# Altium schematic symbol library CAN_BUS.SchLib: 16 symbols
Pins are listed as number, name and electrical type; pins without a type are passive.

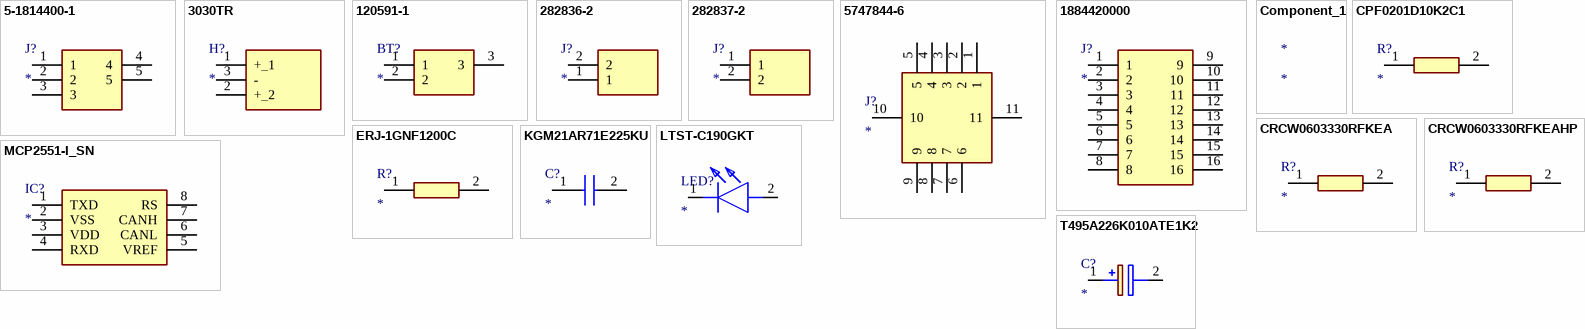
[diagram p0: symbols 5-1814400-1 to T495A226K010ATE1K2]

## 5-1814400-1
designator J?
Connector; Manufacturer_Name: TE Connectivity; Manufacturer_Part_Number: 5-1814400-1; Datasheet Link: https://www.te.com/commerce/DocumentDelivery/DDEController?Action=showdoc&DocId=Customer+Drawing%7F1814400%7FD%7Fpdf%7FEnglish%7FENG_CD_1814400_D_baseFilename.pdf%7F5-1814400-1; Height: 10.43mm; Mouser Part Number: 571-5-1814400-1; Mouser Price/Stock: https://www.mouser.co.uk/ProductDetail/TE-Connectivity/5-1814400-1?qs=ZMVvPt2N%252B83mDSbcJPKgOA%3D%3D; Arrow Part Number: 5-1814400-1; Arrow Price/Stock: https://www.arrow.com/en/products/5-1814400-1/te-connectivity
footprint 518144001
pins: 1, 2, 3, 4, 5

## 3030TR
designator H?
Hardware; Manufacturer_Name: Keystone Electronics; Manufacturer_Part_Number: 3030TR; Datasheet Link: https://www.keyelco.com/product.cfm/product_id/3952; Height: 3.2mm; Mouser Part Number: 534-3030TR; Mouser Price/Stock: https://www.mouser.co.uk/ProductDetail/Keystone-Electronics/3030TR?qs=wOxb8XianXjwPE0WKmjCvQ%3D%3D; Arrow Part Number: 3030TR; Arrow Price/Stock: https://www.arrow.com/en/products/3030tr/keystone-electronics?region=europe
footprint 3030TR
pins: 1 +_1, 2 +_2, 3 -

## 120591-1
designator BT?
Battery; Manufacturer_Name: TE Connectivity; Manufacturer_Part_Number: 120591-1; Description: Holder pcb 2 way Battery Holder pcb 2 way Battery; Datasheet Link: http://www.te.com/commerce/DocumentDelivery/DDEController?Action=srchrtrv&DocNm=120591&DocType=Customer+Drawing&DocLang=English&DocFormat=pdf&PartCntxt=120591-1; Mouser Part Number: 571-1205911; Mouser Price/Stock: https://www.mouser.co.uk/ProductDetail/TE-Connectivity/120591-1?qs=cB%252BprIo57OeZ1n1mnEiYEw%3D%3D; Arrow Part Number: 120591-1; Arrow Price/Stock: https://www.arrow.com/en/products/120591-1/te-connectivity?region=nac
footprint 120591-1
pins: 1, 2, 3

## 282836-2
designator J?
Connector; Manufacturer_Name: TE Connectivity; Manufacturer_Part_Number: 282836-2; Datasheet Link: https://www.te.com/commerce/DocumentDelivery/DDEController?Action=showdoc&DocId=Customer+Drawing%7F282836%7FJ%7Fpdf%7FEnglish%7FENG_CD_282836_J.pdf%7F282836-2; Height: 10mm; Mouser Part Number: 571-2828362; Mouser Price/Stock: https://www.mouser.co.uk/ProductDetail/TE-Connectivity/282836-2?qs=A%252Bip%252BNCYi6Ohx9vaQ1l4dg%3D%3D; Arrow Part Number: 282836-2; Arrow Price/Stock: https://www.arrow.com/en/products/282836-2/te-connectivity?region=nac
footprint 2828362
pins: 1, 2

## 282837-2
designator J?
Connector; Manufacturer_Name: TE Connectivity; Manufacturer_Part_Number: 282837-2; Datasheet Link: https://www.te.com/commerce/DocumentDelivery/DDEController?Action=srchrtrv&DocNm=282837&DocType=Customer+Drawing&DocLang=English&DocFormat=pdf&PartCntxt=282837-2; Height: 10.3mm; Mouser Part Number: 571-2828372; Mouser Price/Stock: https://www.mouser.co.uk/ProductDetail/TE-Connectivity/282837-2?qs=A%252Bip%252BNCYi6O2H0NGWOeAxg%3D%3D; Arrow Part Number: 282837-2; Arrow Price/Stock: https://www.arrow.com/en/products/282837-2/te-connectivity?region=europe
footprint 2828372
pins: 1, 2

## 5747844-6
designator J?
Connector; Manufacturer_Name: TE Connectivity; Manufacturer_Part_Number: 5747844-6; Datasheet Link: http://www.te.com/commerce/DocumentDelivery/DDEController?Action=showdoc&DocId=Customer+Drawing%7F5747844%7FP%7Fpdf%7FEnglish%7FENG_CD_5747844_P.pdf%7F5747844-6; Height: 12mm; Mouser Part Number: 571-5747844-6; Mouser Price/Stock: https://www.mouser.co.uk/ProductDetail/TE-Connectivity/5747844-6?qs=x6EjVpvqMVNBaI3EeeZZVw%3D%3D; Arrow Part Number: 5747844-6; Arrow Price/Stock: https://www.arrow.com/en/products/5747844-6/te-connectivity?region=europe
footprint 57478446
pins: 1, 2, 3, 4, 5, 6, 7, 8, 9, 10, 11

## 1884420000
designator J?
Connector; Manufacturer_Name: Weidmuller; Manufacturer_Part_Number: 1884420000; Datasheet Link: https://catalog.weidmueller.com/catalog/Start.do;jsessionid=6E29B2D0EE3FD57AD303409421C030C3?ObjectID=1884420000&page=Product; Height: 12.9mm; Mouser Part Number: 470-1884420000; Mouser Price/Stock: https://www.mouser.co.uk/ProductDetail/Weidmuller/1884420000?qs=WJDKaGZ8K%252B4FlR1iqq%2FnOg%3D%3D
footprint 1884420000
pins: 1, 2, 3, 4, 5, 6, 7, 8, 9, 10, 11, 12, 13, 14, 15, 16

## Component_1
designator *

## CPF0201D10K2C1
designator R?
Resistor; Manufacturer_Name: TE Connectivity; Manufacturer_Part_Number: CPF0201D10K2C1; Datasheet Link: http://www.te.com/commerce/DocumentDelivery/DDEController?Action=showdoc&DocId=Data+Sheet%7F1773200-1%7FA%7Fpdf%7FEnglish%7FENG_DS_1773200-1_A.pdf%7F4-2176215-6; Height: 0.28mm; Mouser Part Number: N/A; Mouser Price/Stock: https://www.mouser.com/Search/Refine.aspx?Keyword=N%2FA
footprint RESC0603X28N
pins: 1, 2

## CRCW0603330RFKEA
designator R?
Resistor; Manufacturer_Name: Vishay; Manufacturer_Part_Number: CRCW0603330RFKEA; Datasheet Link: http://www.vishay.com/docs/20035/dcrcwe3.pdf; Height: 0.5mm; Mouser Part Number: 71-CRCW0603-330-E3; Mouser Price/Stock: https://www.mouser.co.uk/ProductDetail/Vishay-Dale/CRCW0603330RFKEA?qs=xLmuQgtoMPNxrOftWKAO4w%3D%3D; Arrow Part Number: CRCW0603330RFKEA; Arrow Price/Stock: https://www.arrow.com/en/products/crcw0603330rfkea/vishay?region=nac
footprint RESC1608X50N
pins: 1, 2

## CRCW0603330RFKEAHP
designator R?
Resistor; Manufacturer_Name: Vishay; Manufacturer_Part_Number: CRCW0603330RFKEAHP; Datasheet Link: http://uk.rs-online.com/web/p/products/8206830; Height: 0.55mm; Mouser Part Number: 71-CRCW0603330RFKEAH; Mouser Price/Stock: https://www.mouser.co.uk/ProductDetail/Vishay-Dale/CRCW0603330RFKEAHP?qs=40TFAHZMFve19Cb4zHLgwA%3D%3D; Arrow Part Number: CRCW0603330RFKEAHP; Arrow Price/Stock: https://www.arrow.com/en/products/crcw0603330rfkeahp/vishay?region=nac
footprint CAPC1608X55N
pins: 1, 2

## ERJ-1GNF1200C
designator R?
Resistor; Manufacturer_Name: Panasonic; Manufacturer_Part_Number: ERJ-1GNF1200C; Datasheet Link: https://industrial.panasonic.com/cdbs/www-data/pdf/RDA0000/AOA0000C301.pdf; Height: 0.26mm; Mouser Part Number: 667-ERJ-1GNF1200C; Mouser Price/Stock: https://www.mouser.co.uk/ProductDetail/Panasonic/ERJ-1GNF1200C?qs=nuXzIS8loXGKevQlMTNn0A%3D%3D
footprint ERJ1GN_(0201)
pins: 1, 2

## KGM21AR71E225KU
designator C?
Capacitor; Manufacturer_Name: KYOCERA; Manufacturer_Part_Number: KGM21AR71E225KU; Datasheet Link: https://pt.mouser.com/ProductDetail/KYOCERA-AVX/KGM21AR71E225KU?qs=sGAEpiMZZMt7gvpyg0xT8jBHDtGZvLzXyjuUdgmQe5tN2DBxA0np4w%3D%3D; Height: 1.35mm; Mouser Part Number: 581-KGM21AR71E225KU; Mouser Price/Stock: https://www.mouser.co.uk/ProductDetail/KYOCERA-AVX/KGM21AR71E225KU?qs=Jm2GQyTW%2FbhCn4KuUMBp1Q%3D%3D
footprint CAPC2012X135N
pins: 1, 2

## LTST-C190GKT
designator LED?
LED; Manufacturer_Name: Lite-On; Manufacturer_Part_Number: LTST-C190GKT; Datasheet Link: https://media.digikey.com/pdf/Data%20Sheets/Lite-On%20PDFs/LTST-C190GKT.pdf; Height: 0.9mm; Mouser Part Number: 859-LTST-C190GKT; Mouser Price/Stock: https://www.mouser.co.uk/ProductDetail/Lite-On/LTST-C190GKT?qs=drxkyCeiWgbQzclgbojDOg%3D%3D; Arrow Part Number: LTST-C190GKT; Arrow Price/Stock: https://www.arrow.com/en/products/ltst-c190gkt/lite-on-technology?region=nac
footprint LEDC1608X90N
pins: 1 K, 2 A

## MCP2551-I_SN
designator IC?
Integrated Circuit; Manufacturer_Name: Microchip; Manufacturer_Part_Number: MCP2551-I/SN; Datasheet Link: https://datasheet.datasheetarchive.com/originals/distributors/Datasheets-34/DSA-674994.pdf; Height: 1.75mm; Mouser Part Number: 579-MCP2551-I/SN; Mouser Price/Stock: https://www.mouser.co.uk/ProductDetail/Microchip-Technology/MCP2551-I-SN?qs=9y3LFqDLL8L5zFfqqxdOHg%3D%3D; Arrow Part Number: MCP2551-I/SN; Arrow Price/Stock: https://www.arrow.com/en/products/mcp2551-isn/microchip-technology?region=nac
footprint SOIC127P600X175-8N
pins: 1 TXD, 2 VSS, 3 VDD, 4 RXD, 5 VREF, 6 CANL, 7 CANH, 8 RS

## T495A226K010ATE1K2
designator C?
Capacitor Polarised; Manufacturer_Name: KEMET; Manufacturer_Part_Number: T495A226K010ATE1K2; Datasheet Link: https://content.kemet.com/datasheets/KEM_T2009_T495.pdf; Height: 1.8mm; Mouser Part Number: 80-T495A226K10ATE1K2; Mouser Price/Stock: https://www.mouser.co.uk/ProductDetail/KEMET/T495A226K010ATE1K2?qs=sSYV1F9c5cELTAm7MEUyXw%3D%3D
footprint T495A
pins: 1 +, 2 -